# Altium footprint library Electronic_Load.PcbLib: 28 footprints (part 2 of 2)
Each footprint in its own frame and in the unit in brackets; x right, y up, seen from the top. Pads: shape width x height; smd on the part's side, far side on the other; paste and mask are expansions set on the pad; w line width, h text height; cw(c..) or ccw(c..) is an arc to the next point about the centre after c.
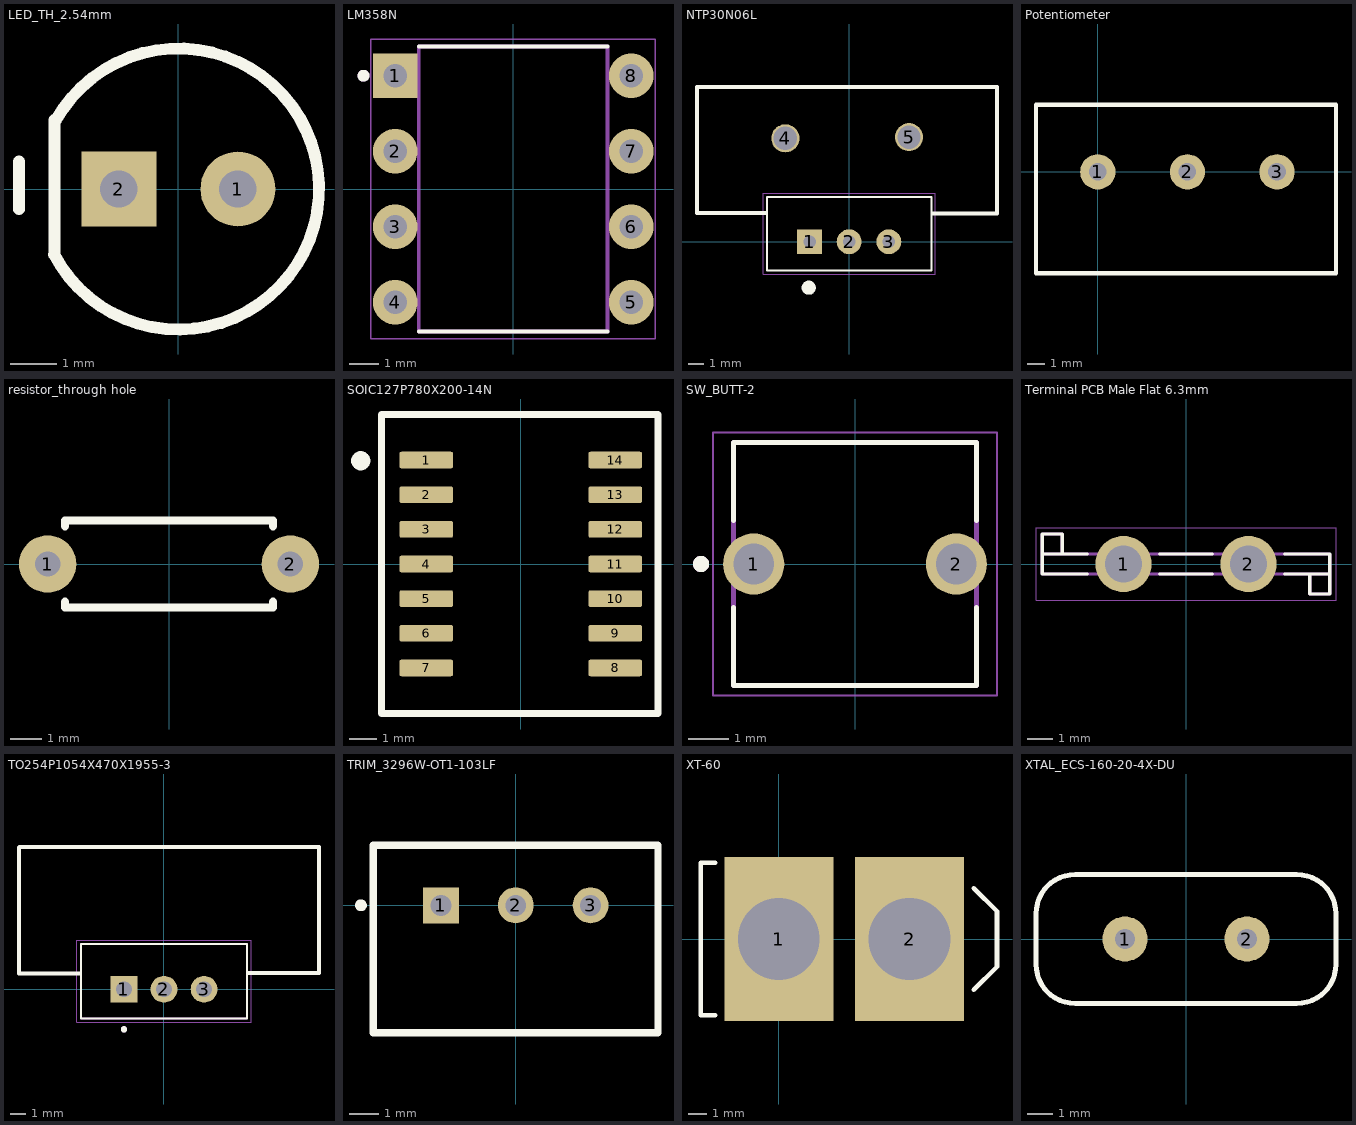
[diagram p1: the footprints below, top view; thin cyan lines are the x and y axes]

## LED_TH_2.54mm [mm]
pads (2):
  round 1.6 hole 0.8: 1(1.27,0)
  rect 1.6x1.6 hole 0.8: 2(-1.27,0)
Top Overlay:
  lines w0.254: -3.404,-0.432 -3.404,0.584 ; -2.654,-1.398 ccw(c0,0) -2.612,1.476 ; -2.642,-1.398 -2.642,1.476
3D body "LED_D5.0mm.step": height 8.6, standoff -5.5, extent -2.5,-2.9 2.9,2.9

## LM358N [mm]
pads (8):
  rect 1.5x1.5 / inner round 1.5 / far side rect 1.5x1.5 hole 0.8: 1(-3.97,3.81)
  round 1.5 hole 0.8: 2(-3.97,1.27) 3(-3.97,-1.27) 4(-3.97,-3.81) 5(3.97,-3.81) 6(3.97,-1.27) 7(3.97,1.27) 8(3.97,3.81)
Top Overlay:
  circle w0.2: c-5.035,3.81 r0.1
  lines w0.127: -3.175,-4.795 3.175,-4.795 ; -3.175,4.795 3.175,4.795
Mechanical 13:
  circle w0.2: c-5.035,3.81 r0.1
  lines w0.127: -3.175,-4.795 -3.175,4.795 3.175,4.795 3.175,-4.795 -3.175,-4.795
Mechanical 15:
  lines w0.05: -4.785,-5.045 -4.785,5.045 4.785,5.045 4.785,-5.045 -4.785,-5.045
3D body "step_temp.STEP": height 5.08, standoff -3.81, extent -3.937,-4.794 3.937,4.794
3D body "110-87-308-41-001101.stp": height 2.8, standoff -4.57, extent -5.05,-5.05 5.05,5.05

## NTP30N06L [mm]
pads (5):
  rect 1.6x1.6 hole 0.8: 1(-2.54,0)
  round 1.6 hole 0.8: 2(0,0) 3(2.54,0)
  round 1.8 hole 1.5: 4(-4.089,6.629) 5(3.835,6.706)
Top Overlay:
  circle w0.5: c-2.591,-2.946 r0.2
  lines w0.127: -5.27,-1.84 -5.27,2.86 5.27,2.86 5.27,-1.84 -5.27,-1.84
  lines w0.254: -5.334,1.829 -9.754,1.829 -9.754,9.906 9.474,9.906 9.474,1.803 5.359,1.803
Mechanical 15:
  lines w0.05: -5.52,-2.09 -5.52,3.11 5.52,3.11 5.52,-2.09 -5.52,-2.09
3D body "User Library-YI25.step": height 25, standoff -4, extent -9.678,1.715 9.322,9.715
3D body "LM7805CT.STEP": height 22.86, standoff -8.38, extent -5.08,-1.524 5.08,2.671

## Potentiometer [mm]
pads (3):
  round 2 hole 1: 1(0,0) 2(5.08,0) 3(10.16,0)
Top Overlay:
  lines w0.254: -3.5,-5.75 13.5,-5.75 13.5,3.81 -3.5,3.81 -3.5,-5.75
3D body "POT10K.step": height 21.5, standoff -4, extent -3.499,-5.6 13.5,18.6

## resistor_through hole [mm]
pads (2):
  round 1.8 hole 0.8: 1(-3.81,0) 2(3.81,0)
Top Overlay:
  lines w0.254: -3.27,-1.185 -3.27,-1.37 3.27,-1.37 3.27,-1.185 ; -3.27,1.185 -3.27,1.37 3.27,1.37 3.27,1.185
3D body "R_Axial_DIN0207_L6.3mm_D2.5mm_P7.62mm_Horizontal.step": height 2.5, standoff -3, extent -4.107,-1.24 4.108,1.25

## SOIC127P780X200-14N [mm]
pads (14):
  rrect25% 1.97x0.61 smd: 1(-3.465,3.81) 2(-3.465,2.54) 3(-3.465,1.27) 4(-3.465,0) 5(-3.465,-1.27) 6(-3.465,-2.54) 7(-3.465,-3.81) 8(3.465,-3.81) 9(3.465,-2.54) 10(3.465,-1.27) 11(3.465,0) 12(3.465,1.27) 13(3.465,2.54) 14(3.465,3.81)
Top Overlay:
  circle w0.5: c-5.867,3.785 r0.1
  lines w0.254: -5.105,-5.486 5.029,-5.486 5.029,5.486 -5.105,5.486 -5.105,-5.486
3D body "step_temp.STEP": height 2, standoff 0, extent -3.9,-5.1 3.9,5.1

## SW_BUTT-2 [mm]
height 9.5
pads (2):
  round 1.508 hole 1: 1(-2.5,0) 2(2.5,0)
Top Overlay:
  circle w0.2: c-3.8,0 r0.1
  lines w0.127: -3,-1.075 -3,-3 3,-3 3,-1.075 ; -3,1.075 -3,3 3,3 3,1.075
Mechanical 13:
  circle w0.2: c-3.8,0 r0.1
  lines w0.127: -3,-3 -3,3 3,3 3,-3 -3,-3
Mechanical 15:
  lines w0.05: -3.504,-3.25 3.504,-3.25 3.504,3.25 -3.504,3.25 -3.504,-3.25
3D body "XB-TS-1280A.stp": height 8.5, standoff -6.5, extent -3,-3 3,3

## Terminal PCB Male Flat 6.3mm [mm]
pads (2):
  round 2.25 hole 1.5: 1(-2.5,0) 2(2.5,0)
Top Overlay:
  lines w0.127: -3.95,-0.4 -5.75,-0.4 -5.75,0.4 ; -3.95,0.4 -4.95,0.4 ; -1.055,-0.4 1.055,-0.4 ; -1.055,0.4 1.055,0.4 ; 3.95,-0.4 4.95,-0.4 ; 3.95,0.4 5.75,0.4 5.75,-0.4 ; -5.75,0.4 -4.95,0.4 ; -5.75,0.4 -5.75,1.2 -4.95,1.2 -4.95,0.4 ; 4.95,-0.4 4.95,-1.2 5.75,-1.2 5.75,-0.4 ; 4.95,-0.4 5.75,-0.4
Mechanical 13:
  lines w0.127: -1.15,-0.4 1.15,-0.4 ; -1.15,0.4 1.15,0.4 ; -5.75,0.4 -4.95,0.4 ; -5.75,0.4 -5.75,1.2 -4.95,1.2 -4.95,0.4 ; -5.75,0.4 -5.75,-0.4 4.95,-0.4 ; -4.95,0.4 5.75,0.4 5.75,-0.4 ; 4.95,-0.4 4.95,-1.2 5.75,-1.2 5.75,-0.4 ; 4.95,-0.4 5.75,-0.4
Mechanical 15:
  lines w0.05: -6,-1.45 6,-1.45 6,1.45 -6,1.45 -6,-1.45
3D body "PCR250--3DModel-STEP-468060.STEP": height 12.1, standoff -4, extent -5.75,-1.9 5.75,1.9

## TO254P1054X470X1955-3 [mm]
pads (3):
  rect 1.7x1.7 hole 1: 1(-2.54,0)
  round 1.7 hole 1: 2(0,0) 3(2.54,0)
Top Overlay:
  circle w0.2: c-2.54,-2.54 r0.1
  lines w0.127: -5.27,-1.84 -5.27,2.86 5.27,2.86 5.27,-1.84 -5.27,-1.84
  lines w0.254: -5.334,1.016 -9.195,1.016 -9.195,8.992 -9.169,9.017 9.83,9.017 9.83,1.041 5.359,1.041
Mechanical 13:
  circle w0.2: c-2.54,-2.54 r0.1
  lines w0.127: -5.27,-1.84 -5.27,2.86 5.27,2.86 5.27,-1.84 -5.27,-1.84
Mechanical 15:
  lines w0.05: -5.52,-2.09 -5.52,3.11 5.52,3.11 5.52,-2.09 -5.52,-2.09
3D body "User Library-YI25.step": height 25, standoff -4, extent -9.196,1.017 9.804,9.017
3D body "LM7805CT.STEP": height 22.86, standoff -8.38, extent -5.08,-1.485 5.08,2.71

## TRIM_3296W-OT1-103LF [mm]
pads (3):
  rect 1.218x1.218 / inner round 1.218 / far side rect 1.218x1.218 hole 0.71: 1(-2.54,0)
  round 1.218 hole 0.71: 2(0,0) 3(2.54,0)
Top Overlay:
  circle w0.2: c-5.25,0 r0.1
  lines w0.254: -4.826,-4.318 -4.826,2.032 4.826,2.032 4.826,-4.318 -4.826,-4.318
3D body "User Library-3299W-1-103RLF.step": height 11.56, standoff -6.22, extent -4.737,-4.216 4.788,1.88

## XT-60 [mm]
pads (2):
  rect 6x9 hole 4.5: 1(0,0) 2(7.2,0)
Top Overlay:
  lines w0.254: -3.494,-4.2 -4.3,-4.2 -4.3,4.2 -3.494,4.2 ; 10.739,-2.794 12.009,-1.524 12.009,1.524 10.739,2.794
3D body "User Library-XT60 female.step": height 18.21, standoff -3.99, extent -4.25,-4.05 11.65,4.1

## XTAL_ECS-160-20-4X-DU [mm]
pads (2):
  round 1.8 hole 0.8: 1(-2.44,0) 2(2.44,0)
Top Overlay:
  lines w0.2: -6,-1.01 ccw(c-4.43,-1.01) -4.43,-2.58 4.43,-2.58 ccw(c4.43,-1.01) 6,-1.01 6,1.01 ccw(c4.43,1.01) 4.43,2.58 -4.43,2.58 ccw(c-4.43,1.01) -6,1.01 -6,-1.01
3D body "ECS-160-20-4X-DU.STEP": height 3.5, standoff -12.7, extent -5.675,-2.325 5.675,2.325